# Altium footprint library VJ1206Y103KXACW1BC.PcbLib: 3 footprints
Each footprint in its own frame and in the unit in brackets; x right, y up, seen from the top. Pads: shape width x height; smd on the part's side, far side on the other; paste and mask are expansions set on the pad; w line width, h text height; cw(c..) or ccw(c..) is an arc to the next point about the centre after c.
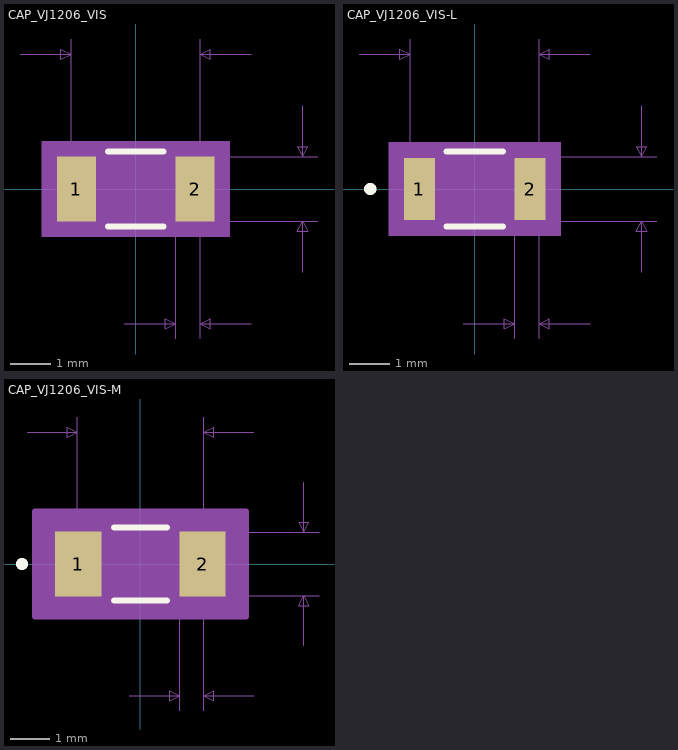
[diagram p0: the footprints below, top view; thin cyan lines are the x and y axes]

## CAP_VJ1206_VIS [mil]
pads (2):
  rect 38x63 smd paste+0 mask+0: 1(-58,0) 2(58,0)
Top Overlay:
  lines w6: -26.89,-36.5 26.89,-36.5 ; -26.89,36.5 26.89,36.5
Mechanical 5:
  region: 92,-46.5 -92,-46.5 -92,46.5 92,46.5
Mechanical 7:
  lines w1: -113,131.5 -63,131.5 ; -63,0 -63,146.5 ; -11,-131.5 39,-131.5 ; 0,-31.5 178,-31.5 ; 0,31.5 178,31.5 ; 39,-146.5 39,0 ; 63,-146.5 63,0 63,146.5 ; 113,-131.5 63,-131.5 ; 113,131.5 63,131.5 ; 163,-81.5 163,-31.5 ; 163,81.5 163,31.5 ; -63,131.5 -73,126.5 -73,136.5 -63,131.5 ; 39,-131.5 29,-136.5 29,-126.5 39,-131.5 ; 63,-131.5 73,-136.5 73,-126.5 63,-131.5 ; 63,131.5 73,126.5 73,136.5 63,131.5 ; 163,-31.5 168,-41.5 158,-41.5 163,-31.5 ; 163,31.5 168,41.5 158,41.5 163,31.5
  text "0.024in/0.61mm" at -36.5,-176.5 h25
  text "0.126in/3.2mm" at -81.25,151.5 h25
  text "0.063in/1.6mm" at 183,-12.5 h25
  text "Alternate 2 Padstyle: OX90Y60D30P" at -412.5,-501.5 h50
  text "Alternate 1 Padstyle: OX60Y90D30P" at -412.5,-401.5 h50
  text "Default Padstyle: RX38Y63D0T" at -350,-301.5 h50
Mechanical 13:
  lines w1: -63,-31.5 -63,31.5 ; -63,-31.5 63,-31.5 ; -63,-31.5 -39,-31.5 -39,31.5 -63,31.5 ; -63,-31.5 -63,31.5 ; -63,31.5 63,31.5 ; 63,-31.5 63,31.5 ; 63,-31.5 63,31.5 ; 63,-31.5 39,-31.5 39,31.5 63,31.5
Mechanical 15:
  region: 87,-41.5 -87,-41.5 -87,41.5 87,41.5
  lines w6: -87,-41.5 87,-41.5 87,41.5 -87,41.5 -87,-41.5
3D body "CAP_VJ1206_VIS.step": height 62.99, standoff 0, extent -62.99,-31.5 62.99,31.5
3D body: height 10, standoff 0, extent 0,0 10,10

## CAP_VJ1206_VIS-L [mil]
pads (2):
  rect 30x61 smd paste+0 mask+0: 1(-54,0) 2(54,0)
Top Overlay:
  circle w6: c-102,0 r3
  lines w6: -27.35,-36.5 27.35,-36.5 ; -27.35,36.5 27.35,36.5
Mechanical 5:
  region: 84,-45.5 -84,-45.5 -84,45.5 84,45.5
Mechanical 7:
  lines w1: -113,131.5 -63,131.5 ; -63,0 -63,146.5 ; -11,-131.5 39,-131.5 ; 0,-31.5 178,-31.5 ; 0,31.5 178,31.5 ; 39,-146.5 39,0 ; 63,-146.5 63,0 63,146.5 ; 113,-131.5 63,-131.5 ; 113,131.5 63,131.5 ; 163,-81.5 163,-31.5 ; 163,81.5 163,31.5 ; -63,131.5 -73,126.5 -73,136.5 -63,131.5 ; 39,-131.5 29,-136.5 29,-126.5 39,-131.5 ; 63,-131.5 73,-136.5 73,-126.5 63,-131.5 ; 63,131.5 73,126.5 73,136.5 63,131.5 ; 163,-31.5 168,-41.5 158,-41.5 163,-31.5 ; 163,31.5 168,41.5 158,41.5 163,31.5
  text "0.024in/0.61mm" at -36.5,-176.5 h25
  text "0.126in/3.2mm" at -81.25,151.5 h25
  text "0.063in/1.6mm" at 183,-12.5 h25
  text "Alternate 2 Padstyle: OX90Y60D30P" at -412.5,-500.5 h50
  text "Alternate 1 Padstyle: OX60Y90D30P" at -412.5,-400.5 h50
  text "Default Padstyle: RX30Y61D0T" at -350,-300.5 h50
Mechanical 13:
  circle w0: c-49,0 r3
  lines w1: -63,-31.5 -63,31.5 ; -63,-31.5 63,-31.5 ; -63,-31.5 -39,-31.5 -39,31.5 -63,31.5 ; -63,-31.5 -63,31.5 ; -63,31.5 63,31.5 ; 63,-31.5 63,31.5 ; 63,-31.5 63,31.5 ; 63,-31.5 39,-31.5 39,31.5 63,31.5
Mechanical 15:
  region: 73,-34.5 -73,-34.5 -73,34.5 73,34.5
  lines w6: -73,-34.5 73,-34.5 73,34.5 -73,34.5 -73,-34.5
3D body: height 10, standoff 0, extent 0,0 10,10

## CAP_VJ1206_VIS-M [mil]
pads (2):
  rect 46x65 smd paste+0 mask+0: 1(-62,0) 2(62,0)
Top Overlay:
  circle w6: c-118,0 r3
  lines w6: -26.53,-36.5 26.53,-36.5 ; -26.53,36.5 26.53,36.5
Mechanical 5:
  region: 100,-47.5 -100,-47.5 -100,47.5 100,47.5
Mechanical 7:
  lines w1: -113,131.5 -63,131.5 ; -63,0 -63,146.5 ; -11,-131.5 39,-131.5 ; 0,-31.5 178,-31.5 ; 0,31.5 178,31.5 ; 39,-146.5 39,0 ; 63,-146.5 63,0 63,146.5 ; 113,-131.5 63,-131.5 ; 113,131.5 63,131.5 ; 163,-81.5 163,-31.5 ; 163,81.5 163,31.5 ; -63,131.5 -73,126.5 -73,136.5 -63,131.5 ; 39,-131.5 29,-136.5 29,-126.5 39,-131.5 ; 63,-131.5 73,-136.5 73,-126.5 63,-131.5 ; 63,131.5 73,126.5 73,136.5 63,131.5 ; 163,-31.5 168,-41.5 158,-41.5 163,-31.5 ; 163,31.5 168,41.5 158,41.5 163,31.5
  text "0.024in/0.61mm" at -36.5,-176.5 h25
  text "0.126in/3.2mm" at -81.25,151.5 h25
  text "0.063in/1.6mm" at 183,-12.5 h25
  text "Alternate 2 Padstyle: OX90Y60D30P" at -412.5,-502.5 h50
  text "Alternate 1 Padstyle: OX60Y90D30P" at -412.5,-402.5 h50
  text "Default Padstyle: RX46Y65D0T" at -350,-302.5 h50
Mechanical 13:
  circle w0: c-57,0 r3
  lines w1: -63,-31.5 -63,31.5 ; -63,-31.5 63,-31.5 ; -63,-31.5 -39,-31.5 -39,31.5 -63,31.5 ; -63,-31.5 -63,31.5 ; -63,31.5 63,31.5 ; 63,-31.5 63,31.5 ; 63,-31.5 63,31.5 ; 63,-31.5 39,-31.5 39,31.5 63,31.5
Mechanical 15:
  region: 105,-52.5 -105,-52.5 -105,52.5 105,52.5
  lines w6: -105,-52.5 105,-52.5 105,52.5 -105,52.5 -105,-52.5
3D body: height 10, standoff 0, extent 0,0 10,10